# Altium integrated library SN74LS47N.IntLib: 1 symbol
Pins are listed as number, name and electrical type; pins without a type are passive.

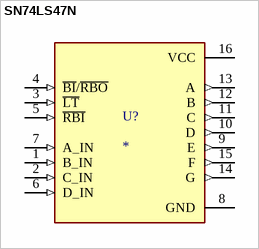
[diagram p0: symbol SN74LS47N]

## SN74LS47N
designator U?
BCD-to-Seven-Segment Decoders/Drivers; MF: Texas Instruments; MP: SN74LS47N; SnapEDA_Link: https://www.snapeda.com/parts/SN74LS47N/Texas+Instruments/view-part/?ref=snap; Package: PDIP-16 Texas Instruments; Value: *; Check_prices: https://www.snapeda.com/parts/SN74LS47N/Texas+Instruments/view-part/?ref=eda
footprint DIP794W45P254L1930H508Q16
pins: 1 B_IN (in), 2 C_IN (in), 3 ~{LT} (in), 4 ~{BI}/~{RBO} (in), 5 ~{RBI} (in), 6 D_IN (in), 7 A_IN (in), 8 GND (power), 9 E (out), 10 D (out), 11 C (out), 12 B (out), 13 A (out), 14 G (out), 15 F (out), 16 VCC (power)